# EAGLE library part 21MTC (library con-nem)
21mtc, male SMD type 21 pin, 1,27mm grid. P: engine connector (view from top of decoder) (21mtc is not to be used for new designs, depracted)
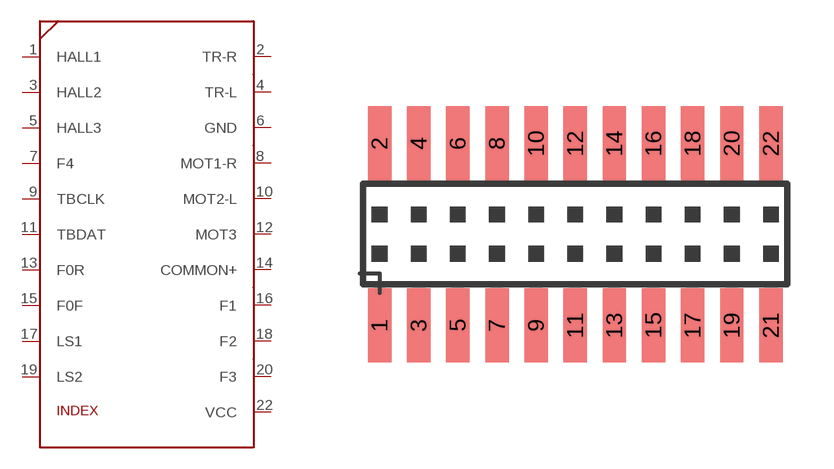
[diagram p5: symbol with the pads of 1365-22; footprint 1365-22]

Designator prefix -

## 21MTCP  [1365-22]
1  HALL1
2  TR-R
3  HALL2
4  TR-L
5  HALL3
6  GND
7  F4
8  MOT1-R
9  TBCLK
10  MOT2-L
11  TBDAT
12  MOT3
13  F0R
14  COMMON+
15  F0F
16  F1
17  LS1
18  F2
19  LS2
20  F3
22  VCC

## Footprint 1365-22 (pad centres in mm)
DUAL ROW STRAIGHT HEADER 1364 SERIES. 1.27mm x 1.27mm. Without Fixing Post. SMT Source: http://www.leotronics.co.uk/Conexcon/
smd 0.76 x 2.4: 1 -6.35,-2.95; 2 -6.35,2.95; 3 -5.08,-2.95; 4 -5.08,2.95; 5 -3.81,-2.95; 6 -3.81,2.95; 7 -2.54,-2.95; 8 -2.54,2.95; 9 -1.27,-2.95; 10 -1.27,2.95; 11 0,-2.95; 12 0,2.95; 13 1.27,-2.95; 14 1.27,2.95; 15 2.54,-2.95; 16 2.54,2.95; 17 3.81,-2.95; 18 3.81,2.95; 19 5.08,-2.95; 20 5.08,2.95; 21 6.35,-2.95; 22 6.35,2.95